# EAGLE library part PCA9632DP1 (library KW2)
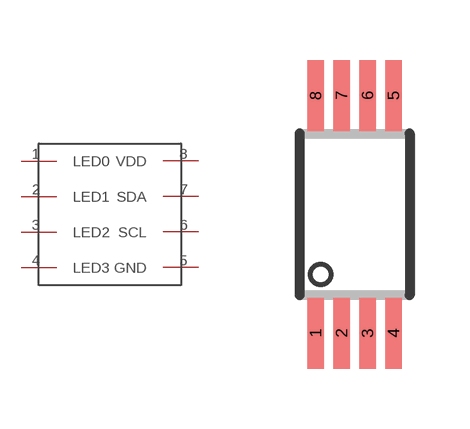
[diagram p15: symbol with the pads of TSSOP-8; footprint TSSOP-8]

Designator prefix U

## PCA9632DP1 (MFGN: NXP; MFGP: PCA9632DP1)  [TSSOP-8]
1  LED0
2  LED1
3  LED2
4  LED3
5  GND
6  SCL
7  SDA
8  VDD

## Footprint TSSOP-8 (pad centres in mm)
8-Pin TSSOP Source: www.xicor.com .. x1205.pdf
smd 0.42 x 1.78: 1 -0.975,-2.975; 2 -0.325,-2.975; 3 0.325,-2.975; 4 0.975,-2.975; 5 0.975,2.975; 6 0.325,2.975; 7 -0.325,2.975; 8 -0.975,2.975